# Altium footprint library WCAP-FTX2_P10L13W7H13_CS.PcbLib: 1 footprints
Each footprint in its own frame and in the unit in brackets; x right, y up, seen from the top. Pads: shape width x height; smd on the part's side, far side on the other; paste and mask are expansions set on the pad; w line width, h text height; cw(c..) or ccw(c..) is an arc to the next point about the centre after c.
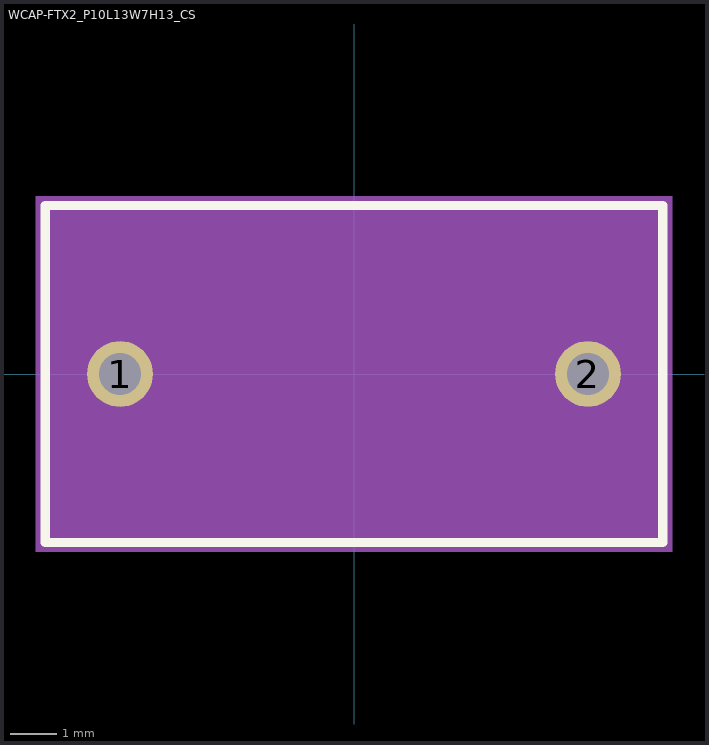
[diagram p0: the footprint, top view; thin cyan lines are the x and y axes]

## WCAP-FTX2_P10L13W7H13_CS [mm]
pads (2):
  round 1.408 hole 0.9: 1(-5,0) 2(5,0)
Top Overlay:
  lines w0.2: -6.6,-3.6 -6.6,3.6 6.6,3.6 6.6,-3.6 -6.6,-3.6
Assembly Top:
  lines w0.1: -6.5,-3.5 -6.5,3.5 6.5,3.5 6.5,-3.5 -6.5,-3.5
Courtyard Top:
  region: 6.8,-3.8 -6.8,-3.8 -6.8,3.8 6.8,3.8
3D body "step_temp.STEP": height 13.08, standoff -3.92, extent -6.5,-3.5 6.5,3.5